# EAGLE library part 749020010A (library 749020010A)
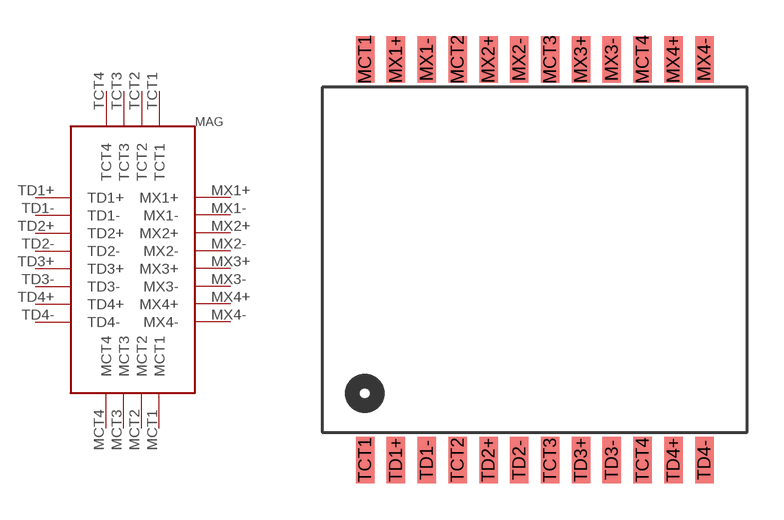
[diagram p0: symbol with the pads of 749023010A; footprint 749023010A]

Designator prefix MAG

## 749020010A  [749023010A]
MCT1  MCT1
MCT2  MCT2
MCT3  MCT3
MCT4  MCT4
MX1+  MX1+
MX1-  MX1-
MX2+  MX2+
MX2-  MX2-
MX3+  MX3+
MX3-  MX3-
MX4+  MX4+
MX4-  MX4-
TCT1  TCT1
TCT2  TCT2
TCT3  TCT3
TCT4  TCT4
TD1+  TD1+
TD1-  TD1-
TD2+  TD2+
TD2-  TD2-
TD3+  TD3+
TD3-  TD3-
TD4+  TD4+
TD4-  TD4-

## Footprint 749023010A (pad centres in mm)
smd 0.76 x 1.9: MCT1 -6.985,8.25; MCT2 -3.175,8.25; MCT3 0.635,8.25; MCT4 4.445,8.25; MX1+ -5.715,8.25; MX1- -4.445,8.25; MX2+ -1.905,8.25; MX2- -0.635,8.25; MX3+ 1.905,8.25; MX3- 3.175,8.25; MX4+ 5.715,8.25; MX4- 6.985,8.25; TCT1 -6.985,-8.25; TCT2 -3.175,-8.25; TCT3 0.635,-8.25; TCT4 4.445,-8.25; TD1+ -5.715,-8.25; TD1- -4.445,-8.25; TD2+ -1.905,-8.25; TD2- -0.635,-8.25; TD3+ 1.905,-8.25; TD3- 3.175,-8.25; TD4+ 5.715,-8.25; TD4- 6.985,-8.25